# EAGLE library part ADACP2104 (library me433-2021)
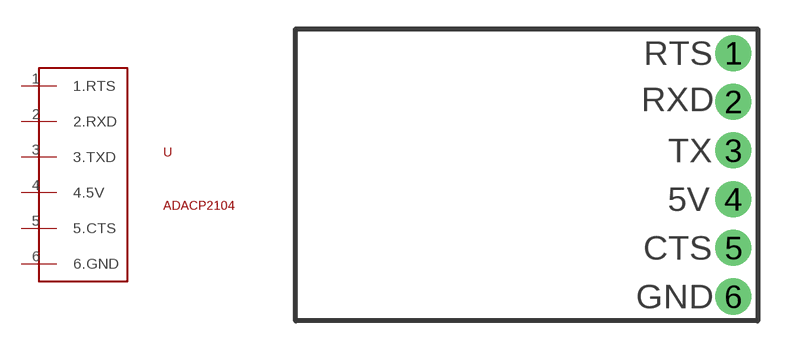
[diagram p11: symbol with the pads of ADACP2104; footprint ADACP2104]

Designator prefix -

## ADACP2104  [ADACP2104]
1  1.RTS
2  2.RXD
3  3.TXD
4  4.5V
5  5.CTS
6  6.GND

## Footprint ADACP2104 (pad centres in mm)
drill 1.016 pad 1.88: 1 3.81,7.62; 2 3.81,5.08; 3 3.81,2.54; 4 3.81,0; 5 3.81,-2.54; 6 3.81,-5.08